# EAGLE library part 557570-1 (library con-amp)
AMP connector
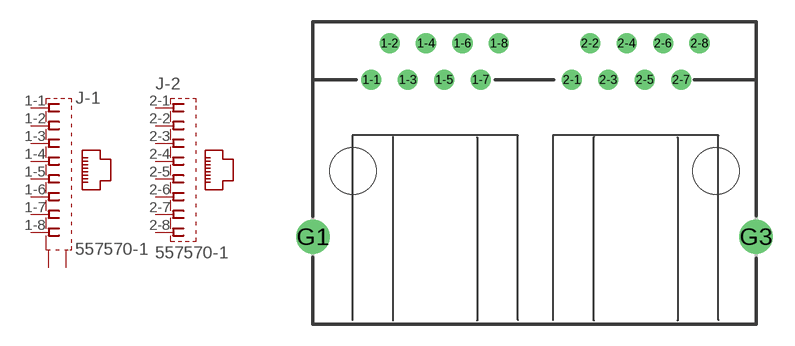
[diagram p63: symbol with the pads of 557570-1; footprint 557570-1]

Designator prefix J; gates -1=JACK8SH -2=JACK8_SH

## 557570-1  [557570-1]
1-1  -1:1  pas
1-2  -1:2  pas
1-3  -1:3  pas
1-4  -1:4  pas
1-5  -1:5  pas
1-6  -1:6  pas
1-7  -1:7  pas
1-8  -1:8  pas
2-1  -2:1  pas
2-2  -2:2  pas
2-3  -2:3  pas
2-4  -2:4  pas
2-5  -2:5  pas
2-6  -2:6  pas
2-7  -2:7  pas
2-8  -2:8  pas
G1  -1:S2  pas
G3  -1:S1  pas

## Footprint 557570-1 (pad centres in mm)
Modular Jack Shielded
drill 0.889: 1-1 -11.43,6.35; 1-2 -10.16,8.89; 1-3 -8.89,6.35; 1-4 -7.62,8.89; 1-5 -6.35,6.35; 1-6 -5.08,8.89; 1-7 -3.81,6.35; 1-8 -2.54,8.89; 2-1 2.54,6.35; 2-2 3.81,8.89; 2-3 5.08,6.35; 2-4 6.35,8.89; 2-5 7.62,6.35; 2-6 8.89,8.89; 2-7 10.16,6.35; 2-8 11.43,8.89
drill 1.575 pad 2.184: G1 -15.494,-4.572; G3 15.367,-4.572
hole 3.251 at -12.7,0
hole 3.251 at 12.573,0